# Altium schematic symbol library ZYF_Common.SchLib: 50 symbols
Pins are listed as number, name and electrical type; pins without a type are passive.

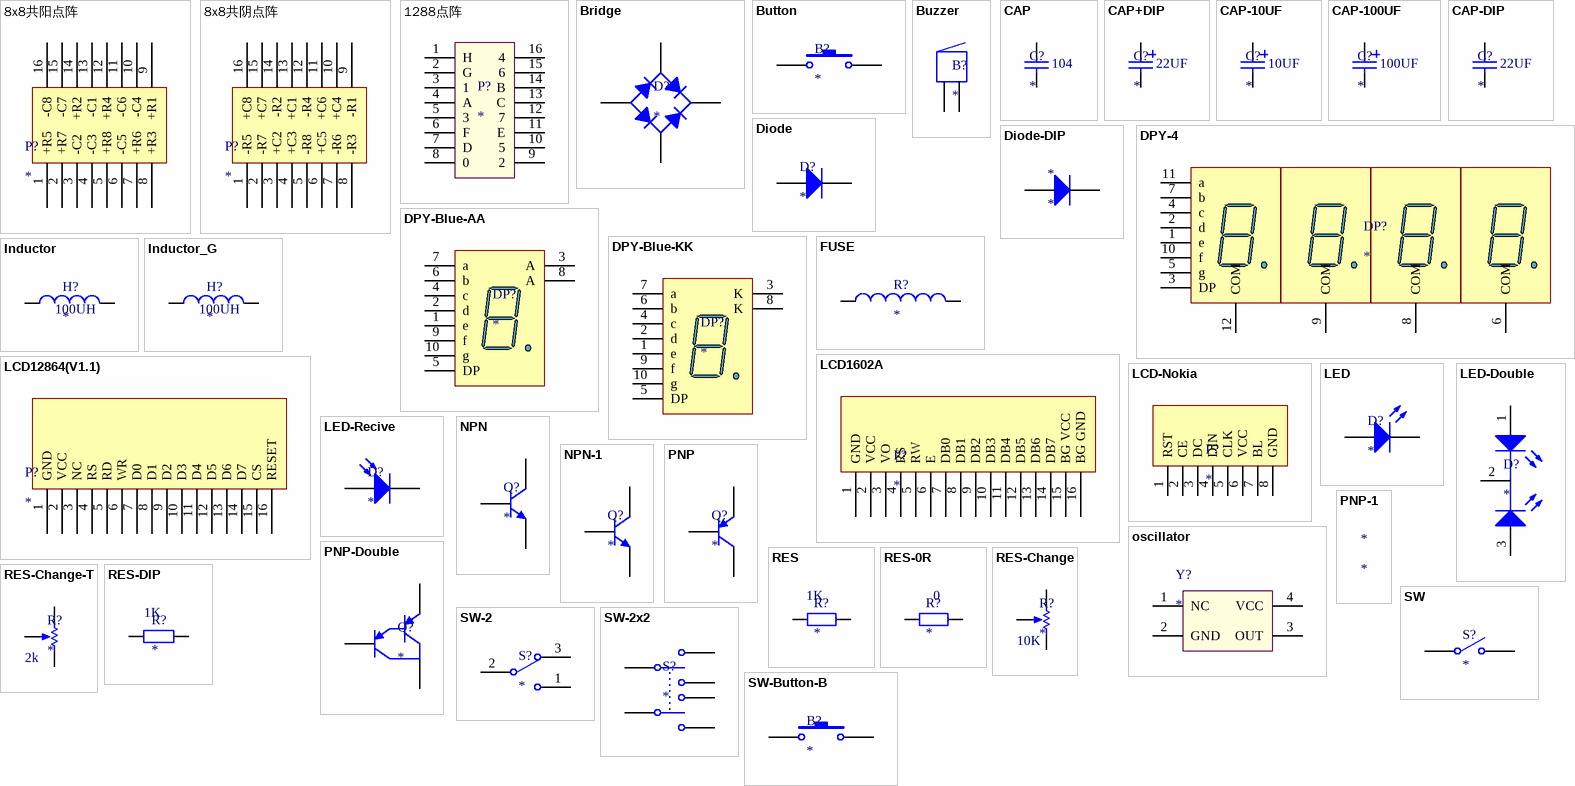
[diagram p0: symbols 8x8共阳点阵 to SW-Button-B]

## 8x8共阳点阵
designator P?
footprint 8x8点阵
pins: 1 +R5, 2 +R7, 3 -C2, 4 -C3, 5 +R8, 6 -C5, 7 +R6, 8 +R3, 9 +R1, 10 -C4, 11 -C6, 12 +R4, 13 -C1, 14 +R2, 15 -C7, 16 -C8

## 8x8共阴点阵
designator P?
footprint 8x8点阵
pins: 1 -R5, 2 -R7, 3 +C2, 4 +C3, 5 -R8, 6 +C5, 7 -R6, 8 -R3, 9 -R1, 10 +C4, 11 +C6, 12 -R4, 13 +C1, 14 -R2, 15 +C7, 16 +C8

## 1288点阵
designator P?
footprint 8x8点阵
pins: 1 H, 2 G, 3 1, 4 A, 5 3, 6 F, 7 D, 8 0, 9 2, 10 5, 11 E, 12 7, 13 C, 14 B, 15 6, 16 4

## Bridge
designator D?
footprint BRIDGE
pins: 1 A, 2 C, 3 K, 4 C

## Button
designator B?
footprint Button
pins: 1, 2

## Buzzer
designator B?
footprint BUZZER
pins: 1, 2

## CAP
designator C?
footprint CAP
pins: 1, 2
text: 104

## CAP+DIP
designator C?
footprint CAP+DIP
pins: 1, 2
text: 22UF

## CAP-10UF
designator C?
footprint CAP-10UF
pins: 1, 2
text: 10UF

## CAP-100UF
designator C?
footprint CAP-100UF
pins: 1, 2
text: 100UF

## CAP-DIP
designator C?
footprint CAP-DIP
pins: 1, 2
text: 22UF

## Diode
designator D?
footprint DIODE
pins: 1 A, 2 K

## Diode-DIP
designator *
footprint DIODE-DIP
pins: 1 A, 2 K

## DPY-4
designator DP?
footprint DPY-4
pins: 1 e "Anode", 2 d "Anode", 3 DP "Anode", 4 c "Anode", 5 g "Anode", 6 COM, 7 b "Anode", 8 COM, 9 COM, 10 f "Anode", 11 a "Anode", 12 COM

## DPY-Blue-AA
designator DP?
footprint DPY
pins: 1 e "Cathode", 2 d "Cathode", 3 A "Common Anode", 4 c "Cathode", 5 DP "Cathode", 6 b "Cathode", 7 a "Cathode", 8 A "Common Anode", 9 f "Cathode", 10 g "Cathode"

## DPY-Blue-KK
designator DP?
footprint DPY
pins: 1 e "Anode", 2 d "Anode", 3 K "Common Cathode", 4 c "Anode", 5 DP "Anode", 6 b "Anode", 7 a "Anode", 8 K "Common Cathode", 9 f "Anode", 10 g "Anode"

## FUSE
designator R?
footprint FUZE
pins: 1, 2

## Inductor
designator H?
footprint RES-DIP
pins: 1, 2
text: 100UH

## Inductor_G
designator H?
footprint INDUCTOR-G
pins: 1, 2
text: 100UH

## LCD1602A
designator P?
footprint LCD1602A
pins: 1 GND, 2 VCC, 3 VO, 4 RS, 5 RW, 6 E, 7 DB0, 8 DB1, 9 DB2, 10 DB3, 11 DB4, 12 DB5, 13 DB6, 14 DB7, 15 BG VCC, 16 BG GND

## LCD12864(V1.1)
designator P?
footprint LCD12864(V1.1)
pins: 1 GND, 2 VCC, 3 NC, 4 RS, 5 RD, 6 WR, 7 D0, 8 D1, 9 D2, 10 D3, 11 D4, 12 D5, 13 D6, 14 D7, 15 CS, 16 RESET

## LCD-Nokia
designator P?
footprint LCD-NOKIA
pins: 1 RST, 2 CE, 3 DC, 4 DIN, 5 CLK, 6 VCC, 7 BL, 8 GND

## LED
designator D?
footprint LED
pins: 1 A, 2 K

## LED-Double
designator D?
pins: 1 A, 2, 3 A

## LED-Recive
designator D?
footprint LED
pins: 1 A, 2 K

## NPN
designator Q?
footprint AUDION
pins: 1 E, 2 B, 3 C

## NPN-1
designator Q?
footprint AUDION-1
pins: 1 E, 2 B, 3 C

## oscillator
designator Y?
footprint OSCILLATOR
pins: 1 NC, 2 GND, 3 OUT, 4 VCC

## PNP
designator Q?
footprint AUDION
pins: 1 E, 2 B, 3 C

## PNP-1
designator *
footprint AUDION-1

## PNP-Double
designator Q?
pins: 1 E, 2 B, 3 C

## RES
designator R?
footprint RES
pins: 1, 2
text: 1K

## RES-0R
designator R?
footprint RES-0R
pins: 1, 2
text: 0

## RES-Change
designator R?
footprint RES-Change
pins: 1 TOP, 2 BOT, 3 TAP
text: 10K

## RES-Change-T
designator R?
footprint RES-Change-T
pins: 1 TOP, 2 BOT, 3 TAP
text: 2k

## RES-DIP
designator R?
footprint RES-DIP
pins: 1, 2
text: 1K

## SW
designator S?
pins: 1 COMMON, 2 NO

## SW-2
designator S?
footprint SW-2
pins: 1, 2, 3

## SW-2x2
designator S?
footprint SW-2X2
pins: 1, 2, 3, 4, 5, 6

## SW-Button-B
designator B?
footprint SW-PB-B
pins: 1, 2

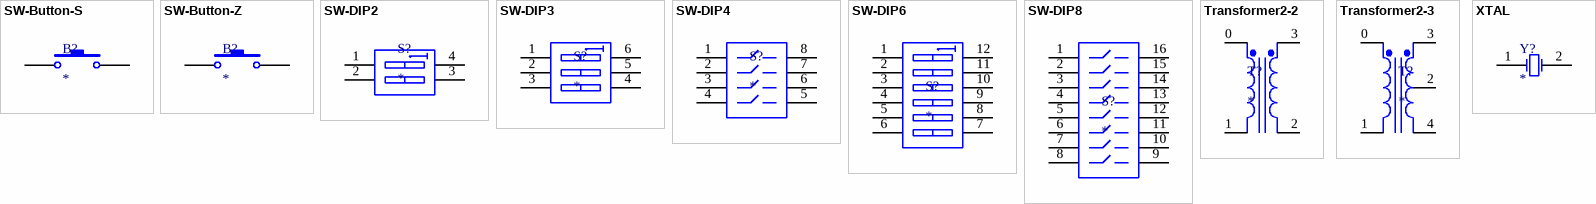
[diagram p1: symbols SW-Button-S to XTAL]

## SW-Button-S
designator B?
footprint SW-PB-S
pins: 1, 2

## SW-Button-Z
designator B?
footprint SW-PB-Z
pins: 1, 2

## SW-DIP2
designator S?
footprint DIP-4
pins: 1 A1, 2 A2, 3 B2, 4 B1

## SW-DIP3
designator S?
footprint DIP-6
pins: 1 A1, 2 A2, 3 A3, 4 B3, 5 B2, 6 B1

## SW-DIP4
designator S?
footprint DIP-8
pins: 1, 2, 3, 4, 5, 6, 7, 8

## SW-DIP6
designator S?
footprint DIP-12
pins: 1 A1, 2 A2, 3 A3, 4 A4, 5 A5, 6 A6, 7 B6, 8 B5, 9 B4, 10 B3, 11 B2, 12 B1

## SW-DIP8
designator S?
footprint DIP-16
pins: 1, 2, 3, 4, 5, 6, 7, 8, 9, 10, 11, 12, 13, 14, 15, 16

## Transformer2-2
designator T?
footprint TRANSFORMER2-2
pins: 0, 1, 2, 3

## Transformer2-3
designator T?
footprint TRANSFORMER2-3
pins: 0, 1, 2, 3, 4

## XTAL
designator Y?
footprint XTAL
pins: 1 OSC1, 2 OSC2